# EAGLE library part STEMMA_I2C (library BitsyExpander_v3.0_M4)
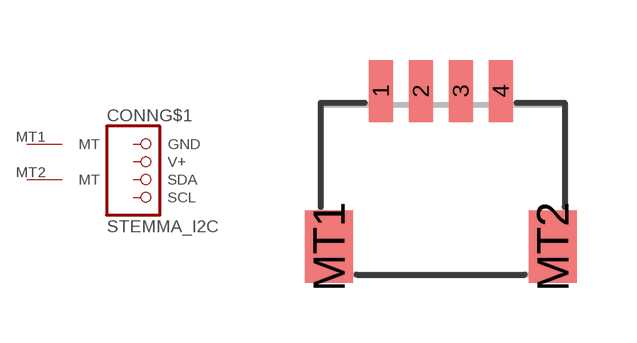
[diagram p7: symbol with the pads of JST_SH4; footprint JST_SH4]

Designator prefix CONN; gates G$1=STEMMA_I2C G$2=MOUNTING G$3=MOUNTING

## STEMMA_I2C_QT  [JST_SH4]
1  G$1:GND  pas
2  G$1:V+  pas
3  G$1:SDA  pas
4  G$1:SCL  pas
MT1  G$2:MT
MT2  G$3:MT

## Footprint JST_SH4 (pad centres in mm)
smd 0.6 x 1.55: 1 -1.5,2.514; 2 -0.5,2.514; 3 0.5,2.514; 4 1.5,2.514
smd 1.2 x 1.8: MT1 -2.8,-1.386; MT2 2.8,-1.386